# EAGLE library part 1-1734248-5 (library 1-1734248-5_15_pin_flex_connector_raspi_csi_1mm_pitch)
CONN FPC VERT 15POS 1.00MM SMD
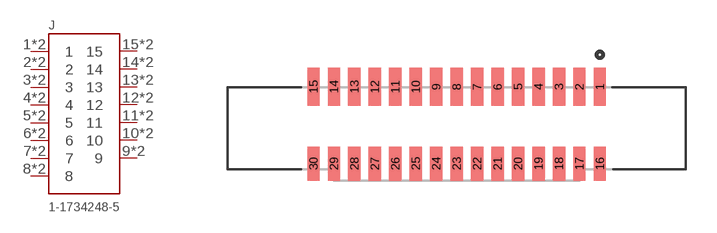
[diagram p0: symbol with the pads of TE_1-1734248-5; footprint TE_1-1734248-5]

Designator prefix J

## 1-1734248-5 (Description: Conn FPC Connector SKT 15 POS 1mm Solder ST SMD T/R; Digi-Key_Part_Number: A101418CT-ND; Digi-Key_Purchase_URL: https://www.digikey.com/product-detail/en/te-connectivity-amp-connectors/1-1734248-5/A101418CT-ND/2567554?utm_source=snapeda&utm_medium=aggregator&utm_campaign=symbol; EU_RoHS_Compliance: Compliant; Link: http://www.te.com/usa-en/product-1-1734248-5.html; MF: TE; MP: 1-1734248-5; Package: None)  [TE_1-1734248-5]
1  1  pas
2  2  pas
3  3  pas
4  4  pas
5  5  pas
6  6  pas
7  7  pas
8  8  pas
9  9  pas
10  10  pas
11  11  pas
12  12  pas
13  13  pas
14  14  pas
15  15  pas
16  1  pas
17  2  pas
18  3  pas
19  4  pas
20  5  pas
21  6  pas
22  7  pas
23  8  pas
24  9  pas
25  10  pas
26  11  pas
27  12  pas
28  13  pas
29  14  pas
30  15  pas

## Footprint TE_1-1734248-5 (pad centres in mm)
smd 0.6 x 1.85: 1 7,2.025; 2 6,2.025; 3 5,2.025; 4 4,2.025; 5 3,2.025; 6 2,2.025; 7 1,2.025; 8 0,2.025; 9 -1,2.025; 10 -2,2.025; 11 -3,2.025; 12 -4,2.025; 13 -5,2.025; 14 -6,2.025; 15 -7,2.025
smd 0.6 x 1.65: 16 7,-1.725; 17 6,-1.725; 18 5,-1.725; 19 4,-1.725; 20 3,-1.725; 21 2,-1.725; 22 1,-1.725; 23 0,-1.725; 24 -1,-1.725; 25 -2,-1.725; 26 -3,-1.725; 27 -4,-1.725; 28 -5,-1.725; 29 -6,-1.725; 30 -7,-1.725